# Altium integrated library Linear Technology Power Management Power Control.IntLib: 661 symbols (part 10 of 43)
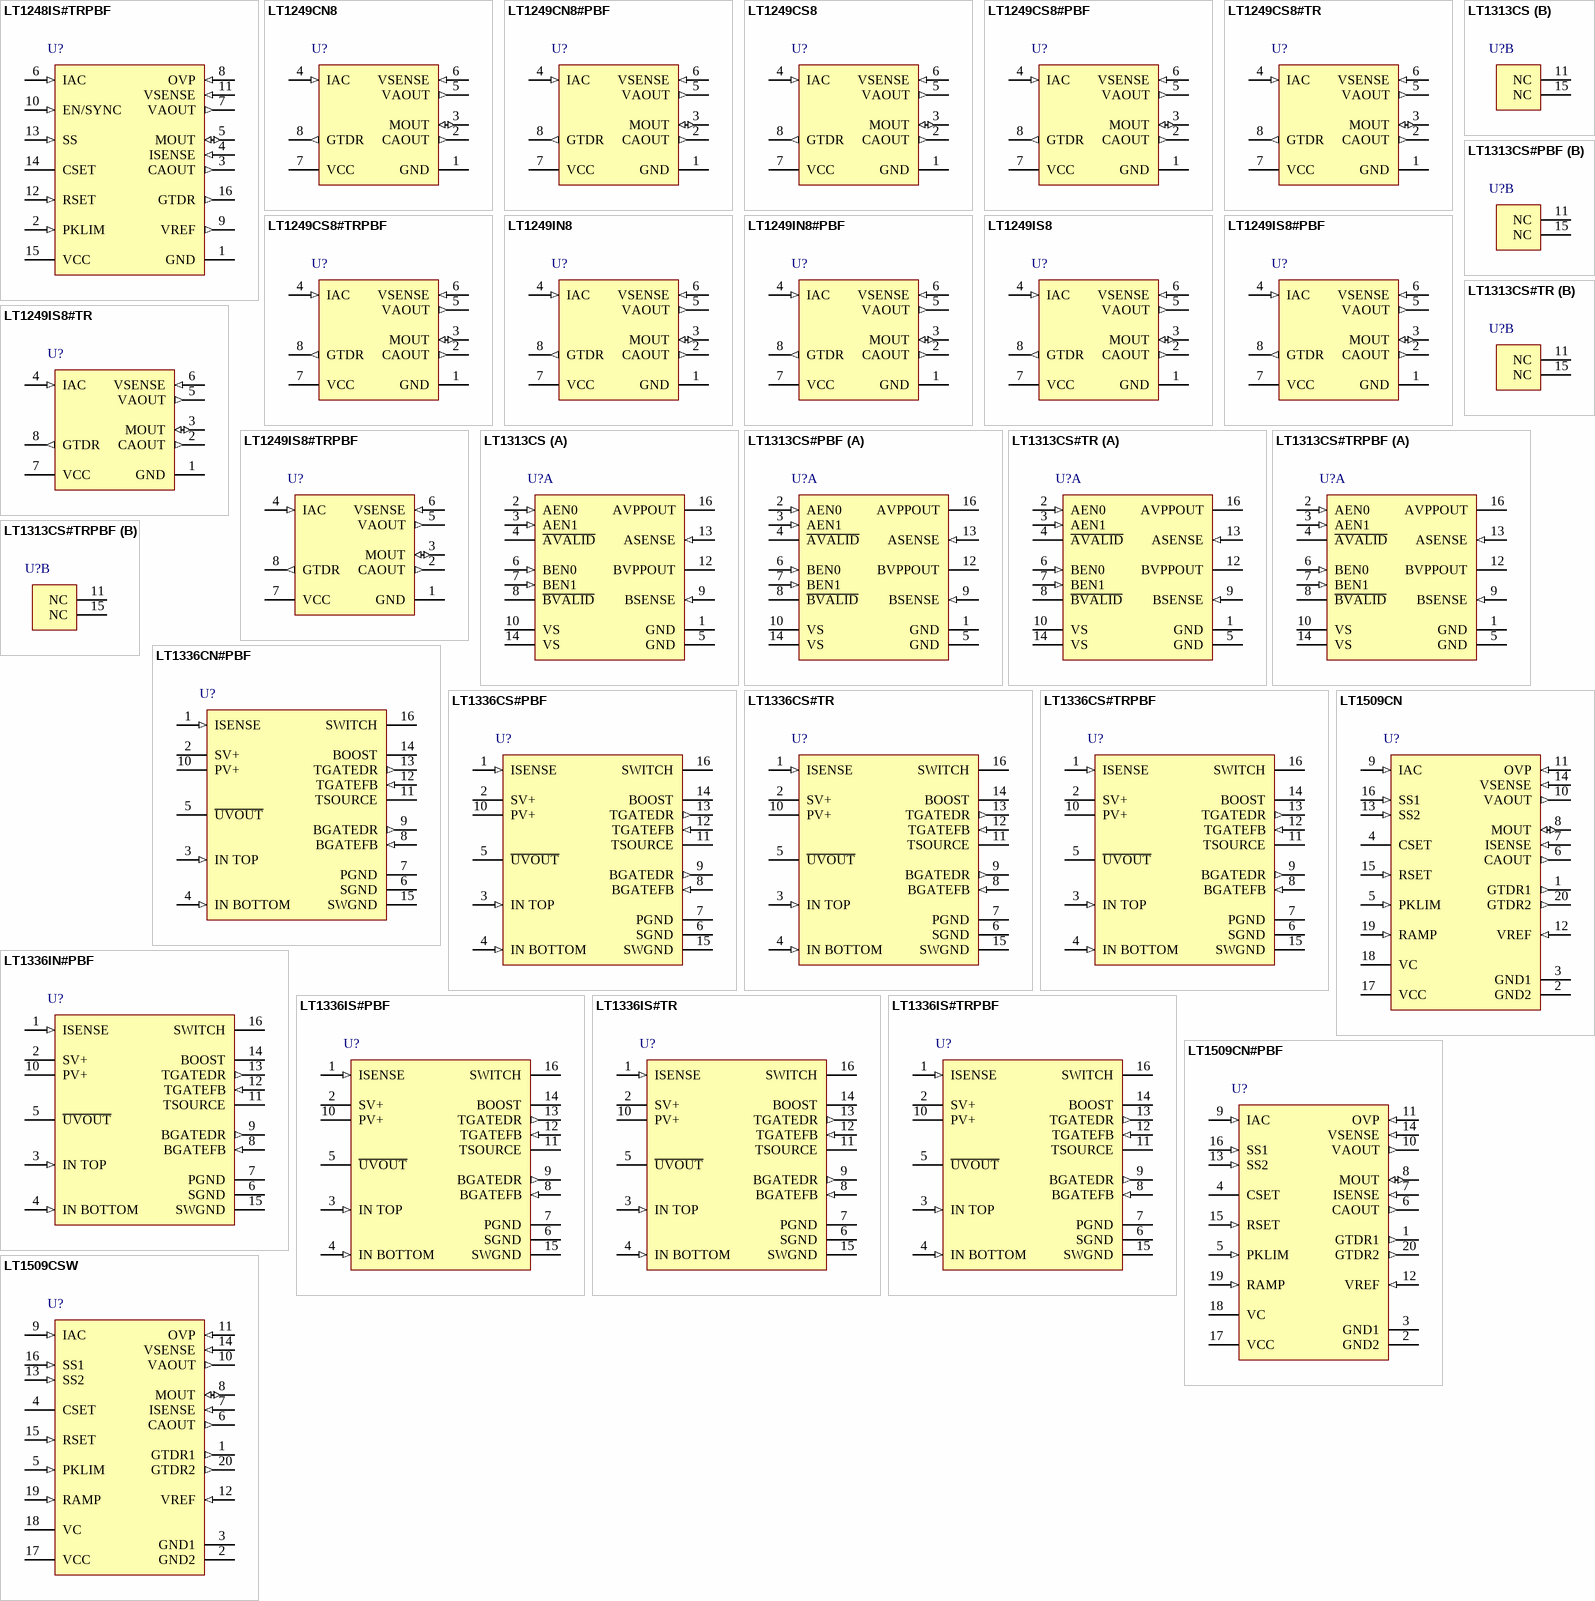
[diagram p28: symbols LT1248IS#TRPBF to LT1509CSW]

## LT1313CS#TRPBF
designator U?
Dual PCMCIA VPP Driver / Regulator, 13 to 20 V Vin, 16-pin SOP (S-16), 0 to 70 degC, Pb-Free, Tape and Reel; Manufacturer: Linear Technology; PartNumber: LT1313CS#TRPBF; PackageVersion: Rev. G, 05/2012; PackageReference: S-16; PackageDescription: 16-Pin Plastic Small Outline, Body 9.9 x 3.9 mm, Pitch 1.27 mm; Supplier 1: Digi-Key; Supplier Part Number 1: LT1313CS#TRPBF-ND; Packing: Tape and Reel; RoHS: TRUE; Mounting Technology: Surface Mount; ComponentLink1Description: Manufacturer URL; ComponentLink1URL: http://www.linear.com/; ComponentLink2Description: Datasheet; ComponentLink2URL: http://cds.linear.com/docs/en/datasheet/lt1313.pdf; ComponentLink3Description: Package Specification; ComponentLink3URL: http://cds.linear.com/docs/en/packaging/S16%2005-08-1610%20Rev%20G.pdf
footprint LT-S-16_N (SOP, 16-Leads, Body 10x4mm, Pitch 1.27mm, IPC Medium Density)
footprint LT-S-16_L (SOP, 16-Leads, Body 10x4mm, Pitch 1.27mm, IPC High Density)
footprint LT-S-16_M (SOP, 16-Leads, Body 10x4mm, Pitch 1.27mm, IPC Low Density)
part A pins: 1 GND (power) "The two ground pins must be connected together at all times.", 2 AEN0 (in) "The four digital input pins are high impedance inputs with approximately 20uA input current at 2.4V. The input thresholds are compatible with CMOS controllers and can be driven from either 5V or 3.3V CMOS logic. ESD (See Datasheet)", 3 AEN1 (in) "The four digital input pins are high impedance inputs with approximately 20uA input current at 2.4V. The input thresholds are compatible with CMOS controllers and can be driven from either 5V or 3.3V CMOS logic. ESD (See Datasheet)", 4 ~{AVALID} (oc) "These pins are open-collector NPN outputs which are driven low when the corresponding VPPOUT pin is in regulation, i.e., when it is above 11V. Two external 51k pull-up resistors are connected between these outputs and the (See Datasheet)", 5 GND (power) "The two ground pins must be connected together at all times.", 6 BEN0 (in) "The four digital input pins are high impedance inputs with approximately 20uA input current at 2.4V. The input thresholds are compatible with CMOS controllers and can be driven from either 5V or 3.3V CMOS logic. ESD (See Datasheet)", 7 BEN1 (in) "The four digital input pins are high impedance inputs with approximately 20uA input current at 2.4V. The input thresholds are compatible with CMOS controllers and can be driven from either 5V or 3.3V CMOS logic. ESD (See Datasheet)", 8 ~{BVALID} (oc) "These pins are open-collector NPN outputs which are driven low when the corresponding VPPOUT pin is in regulation, i.e., when it is above 11V. Two external 51k pull-up resistors are connected between these outputs and the (See Datasheet)", 9 BSENSE (in) "Two independent comparators and 4V references automatically switch the VPPOUT outputs from 5V to 3.3V depending upon the voltage sensed at the corresponding PCMCIA card socket VCC pin. The input current for these pins is (See Datasheet)", 10 VS (power) "Power is supplied to the device through the two supply pins which must be connected together at all times . The supply pins should be bypassed to ground if the device is more than six inches away from the main supply (See Datasheet)", 12 BVPPOUT (power) "Each regulated output supplies power to the two PCMCIA card VPP pins which are typically tied together at the socket. Each VPPOUT output is current limited to approximately 330mA. Thermal shutdown provides a second level of (See Datasheet)", 13 ASENSE (in) "Two independent comparators and 4V references automatically switch the VPPOUT outputs from 5V to 3.3V depending upon the voltage sensed at the corresponding PCMCIA card socket VCC pin. The input current for these pins is (See Datasheet)", 14 VS (power) "Power is supplied to the device through the two supply pins which must be connected together at all times . The supply pins should be bypassed to ground if the device is more than six inches away from the main supply (See Datasheet)", 16 AVPPOUT (power) "Each regulated output supplies power to the two PCMCIA card VPP pins which are typically tied together at the socket. Each VPPOUT output is current limited to approximately 330mA. Thermal shutdown provides a second level of (See Datasheet)"
part B pins: 11 NC, 15 NC

## LT1336CN#PBF
designator U?
Half-Bridge N-Channel Power MOSFET Driver with Boost Regulator, 9 to 60 V Vin, 16-pin DIP (N-16), 0 to 70 degC, Pb-Free; Manufacturer: Linear Technology; PartNumber: LT1336CN#PBF; DatasheetVersion: Rev. A; PackageVersion: Rev. I, 07/2011; PackageReference: N-16; PackageDescription: 16-Pin PDIP, Body 19.56 x 6.48 mm, Pitch 2.54 mm; Supplier 1: Digi-Key; Supplier Part Number 1: LT1336CN#PBF-ND; RoHS: TRUE; Mounting Technology: Through Hole; ComponentLink1Description: Manufacturer URL; ComponentLink1URL: http://www.linear.com/; ComponentLink2Description: Datasheet; ComponentLink2URL: http://cds.linear.com/docs/en/datasheet/1336fa.pdf; ComponentLink3Description: Package Specification; ComponentLink3URL: http://cds.linear.com/docs/en/packaging/05081510_I_N16.pdf
footprint LT-N-16 (DIP, 16-Leads, Body 19.56x6.48mm, Pitch 2.54mm)
pins: 1 ISENSE (in) "Boost Regulator ISENSE Comparator Input. An RSENSE placed between Pin 1 and V+ sets the maximum peak current. Pin 1 can be left open if the boost regulator is not used.", 2 SV+ (power) "Main Signal Supply. Must be closely decoupled to the signal ground Pin 6.", 3 IN TOP (in) "Top Driver Input. Pin 3 is disabled when Pin 4 is high. A 3k input resistor followed by a 5V internal clamp prevents saturation of the input transistors.", 4 IN BOTTOM (in) "Bottom Driver Input. Pin 4 is disabled when Pin 3 is high. A 3k input resistor followed by a 5V internal clamp prevents saturation of the input transistors", 5 ~{UVOUT} (oc) "Undervoltage Output. Open collector NPN output which turns on when V+ drops below the undervoltage threshold.", 6 SGND (power) "Small-Signal Ground. Must be routed separately from other grounds to the system ground", 7 PGND (power) "Bottom Driver Power Ground. Connects to source of bottom N-channel MOSFET.", 8 BGATEFB (in) "Bottom Gate Feedback. Must connect directly to the bottom power MOSFET gate. The top MOSFET turn-on is inhibited until Pin 8 has discharged to below 2.5V.", 9 BGATEDR (out) "Bottom Gate Drive. The high current drive point for the bottom MOSFET. When a gate resistor is used it is inserted between Pin 9 and the gate of the MOSFET.", 10 PV+ (power) "Bottom Driver Supply. Must be connected to the same supply as Pin 2.", 11 TSOURCE "Top Driver Return. Connects to the top MOSFET source and the low side of the bootstrap capacitor", 12 TGATEFB (in) "Top Gate Feedback. Must connect directly to the top power MOSFET gate. The bottom MOSFET turn-on is inhibited until VTGATEFB-VTSOURCE has discharged to below 2.9V.", 13 TGATEDR (out) "Top Gate Drive. The high current drive point for the top MOSFET. When a gate resistor is used it is inserted between Pin 13 and the gate of the MOSFET", 14 BOOST "Top Driver Supply. Connects to the high side of the bootstrap capacitor.", 15 SWGND (power) "Boost Regulator Ground. Must be routed separately from the other grounds to the system ground. Pin 15 can be left open if the boost regulator is not used.", 16 SWITCH "Boost Regulator Switch. Connect this pin to the inductor/diode of the boost regulator network. Pin 16 can be left open if the boost regulator is not used."

## LT1336CS#PBF
designator U?
Half-Bridge N-Channel Power MOSFET Driver with Boost Regulator, 9 to 60 V Vin, 16-pin SOP (S-16), 0 to 70 degC, Pb-Free; Manufacturer: Linear Technology; PartNumber: LT1336CS#PBF; DatasheetVersion: Rev. A; PackageVersion: Rev. G, 05/2012; PackageReference: S-16; PackageDescription: 16-Pin Plastic Small Outline, Body 9.9 x 3.9 mm, Pitch 1.27 mm; Supplier 1: Digi-Key; Supplier Part Number 1: LT1336CS#PBF-ND; Supplier 2: Newark; Supplier Part Number 2: 57M3357; RoHS: TRUE; Mounting Technology: Surface Mount; ComponentLink1Description: Manufacturer URL; ComponentLink1URL: http://www.linear.com/; ComponentLink2Description: Datasheet; ComponentLink2URL: http://cds.linear.com/docs/en/datasheet/1336fa.pdf; ComponentLink3Description: Package Specification; ComponentLink3URL: http://cds.linear.com/docs/en/packaging/S16%2005-08-1610%20Rev%20G.pdf
footprint LT-S-16_N (SOP, 16-Leads, Body 10x4mm, Pitch 1.27mm, IPC Medium Density)
footprint LT-S-16_L (SOP, 16-Leads, Body 10x4mm, Pitch 1.27mm, IPC High Density)
footprint LT-S-16_M (SOP, 16-Leads, Body 10x4mm, Pitch 1.27mm, IPC Low Density)
pins: 1 ISENSE (in) "Boost Regulator ISENSE Comparator Input. An RSENSE placed between Pin 1 and V+ sets the maximum peak current. Pin 1 can be left open if the boost regulator is not used.", 2 SV+ (power) "Main Signal Supply. Must be closely decoupled to the signal ground Pin 6.", 3 IN TOP (in) "Top Driver Input. Pin 3 is disabled when Pin 4 is high. A 3k input resistor followed by a 5V internal clamp prevents saturation of the input transistors.", 4 IN BOTTOM (in) "Bottom Driver Input. Pin 4 is disabled when Pin 3 is high. A 3k input resistor followed by a 5V internal clamp prevents saturation of the input transistors", 5 ~{UVOUT} (oc) "Undervoltage Output. Open collector NPN output which turns on when V+ drops below the undervoltage threshold.", 6 SGND (power) "Small-Signal Ground. Must be routed separately from other grounds to the system ground", 7 PGND (power) "Bottom Driver Power Ground. Connects to source of bottom N-channel MOSFET.", 8 BGATEFB (in) "Bottom Gate Feedback. Must connect directly to the bottom power MOSFET gate. The top MOSFET turn-on is inhibited until Pin 8 has discharged to below 2.5V.", 9 BGATEDR (out) "Bottom Gate Drive. The high current drive point for the bottom MOSFET. When a gate resistor is used it is inserted between Pin 9 and the gate of the MOSFET.", 10 PV+ (power) "Bottom Driver Supply. Must be connected to the same supply as Pin 2.", 11 TSOURCE "Top Driver Return. Connects to the top MOSFET source and the low side of the bootstrap capacitor", 12 TGATEFB (in) "Top Gate Feedback. Must connect directly to the top power MOSFET gate. The bottom MOSFET turn-on is inhibited until VTGATEFB-VTSOURCE has discharged to below 2.9V.", 13 TGATEDR (out) "Top Gate Drive. The high current drive point for the top MOSFET. When a gate resistor is used it is inserted between Pin 13 and the gate of the MOSFET", 14 BOOST "Top Driver Supply. Connects to the high side of the bootstrap capacitor.", 15 SWGND (power) "Boost Regulator Ground. Must be routed separately from the other grounds to the system ground. Pin 15 can be left open if the boost regulator is not used.", 16 SWITCH "Boost Regulator Switch. Connect this pin to the inductor/diode of the boost regulator network. Pin 16 can be left open if the boost regulator is not used."

## LT1336CS#TR
designator U?
Half-Bridge N-Channel Power MOSFET Driver with Boost Regulator, 9 to 60 V Vin, 16-pin SOP (S-16), 0 to 70 degC, Tape and Reel; Manufacturer: Linear Technology; PartNumber: LT1336CS#TR; DatasheetVersion: Rev. A; PackageVersion: Rev. G, 05/2012; PackageReference: S-16; PackageDescription: 16-Pin Plastic Small Outline, Body 9.9 x 3.9 mm, Pitch 1.27 mm; Supplier 1: Digi-Key; Supplier Part Number 1: LT1336CS#TR-ND; Packing: Tape and Reel; RoHS: FALSE; Mounting Technology: Surface Mount; ComponentLink1Description: Manufacturer URL; ComponentLink1URL: http://www.linear.com/; ComponentLink2Description: Datasheet; ComponentLink2URL: http://cds.linear.com/docs/en/datasheet/1336fa.pdf; ComponentLink3Description: Package Specification; ComponentLink3URL: http://cds.linear.com/docs/en/packaging/S16%2005-08-1610%20Rev%20G.pdf
footprint LT-S-16_N (SOP, 16-Leads, Body 10x4mm, Pitch 1.27mm, IPC Medium Density)
footprint LT-S-16_L (SOP, 16-Leads, Body 10x4mm, Pitch 1.27mm, IPC High Density)
footprint LT-S-16_M (SOP, 16-Leads, Body 10x4mm, Pitch 1.27mm, IPC Low Density)
pins: 1 ISENSE (in) "Boost Regulator ISENSE Comparator Input. An RSENSE placed between Pin 1 and V+ sets the maximum peak current. Pin 1 can be left open if the boost regulator is not used.", 2 SV+ (power) "Main Signal Supply. Must be closely decoupled to the signal ground Pin 6.", 3 IN TOP (in) "Top Driver Input. Pin 3 is disabled when Pin 4 is high. A 3k input resistor followed by a 5V internal clamp prevents saturation of the input transistors.", 4 IN BOTTOM (in) "Bottom Driver Input. Pin 4 is disabled when Pin 3 is high. A 3k input resistor followed by a 5V internal clamp prevents saturation of the input transistors", 5 ~{UVOUT} (oc) "Undervoltage Output. Open collector NPN output which turns on when V+ drops below the undervoltage threshold.", 6 SGND (power) "Small-Signal Ground. Must be routed separately from other grounds to the system ground", 7 PGND (power) "Bottom Driver Power Ground. Connects to source of bottom N-channel MOSFET.", 8 BGATEFB (in) "Bottom Gate Feedback. Must connect directly to the bottom power MOSFET gate. The top MOSFET turn-on is inhibited until Pin 8 has discharged to below 2.5V.", 9 BGATEDR (out) "Bottom Gate Drive. The high current drive point for the bottom MOSFET. When a gate resistor is used it is inserted between Pin 9 and the gate of the MOSFET.", 10 PV+ (power) "Bottom Driver Supply. Must be connected to the same supply as Pin 2.", 11 TSOURCE "Top Driver Return. Connects to the top MOSFET source and the low side of the bootstrap capacitor", 12 TGATEFB (in) "Top Gate Feedback. Must connect directly to the top power MOSFET gate. The bottom MOSFET turn-on is inhibited until VTGATEFB-VTSOURCE has discharged to below 2.9V.", 13 TGATEDR (out) "Top Gate Drive. The high current drive point for the top MOSFET. When a gate resistor is used it is inserted between Pin 13 and the gate of the MOSFET", 14 BOOST "Top Driver Supply. Connects to the high side of the bootstrap capacitor.", 15 SWGND (power) "Boost Regulator Ground. Must be routed separately from the other grounds to the system ground. Pin 15 can be left open if the boost regulator is not used.", 16 SWITCH "Boost Regulator Switch. Connect this pin to the inductor/diode of the boost regulator network. Pin 16 can be left open if the boost regulator is not used."

## LT1336CS#TRPBF
designator U?
Half-Bridge N-Channel Power MOSFET Driver with Boost Regulator, 9 to 60 V Vin, 16-pin SOP (S-16), 0 to 70 degC, Pb-Free, Tape and Reel; Manufacturer: Linear Technology; PartNumber: LT1336CS#TRPBF; DatasheetVersion: Rev. A; PackageVersion: Rev. G, 05/2012; PackageReference: S-16; PackageDescription: 16-Pin Plastic Small Outline, Body 9.9 x 3.9 mm, Pitch 1.27 mm; Supplier 1: Digi-Key; Supplier Part Number 1: LT1336CS#TRPBF-ND; Supplier 2: Newark; Supplier Part Number 2: 57M3359; Packing: Tape and Reel; RoHS: TRUE; Mounting Technology: Surface Mount; ComponentLink1Description: Manufacturer URL; ComponentLink1URL: http://www.linear.com/; ComponentLink2Description: Datasheet; ComponentLink2URL: http://cds.linear.com/docs/en/datasheet/1336fa.pdf; ComponentLink3Description: Package Specification; ComponentLink3URL: http://cds.linear.com/docs/en/packaging/S16%2005-08-1610%20Rev%20G.pdf
footprint LT-S-16_N (SOP, 16-Leads, Body 10x4mm, Pitch 1.27mm, IPC Medium Density)
footprint LT-S-16_L (SOP, 16-Leads, Body 10x4mm, Pitch 1.27mm, IPC High Density)
footprint LT-S-16_M (SOP, 16-Leads, Body 10x4mm, Pitch 1.27mm, IPC Low Density)
pins: 1 ISENSE (in) "Boost Regulator ISENSE Comparator Input. An RSENSE placed between Pin 1 and V+ sets the maximum peak current. Pin 1 can be left open if the boost regulator is not used.", 2 SV+ (power) "Main Signal Supply. Must be closely decoupled to the signal ground Pin 6.", 3 IN TOP (in) "Top Driver Input. Pin 3 is disabled when Pin 4 is high. A 3k input resistor followed by a 5V internal clamp prevents saturation of the input transistors.", 4 IN BOTTOM (in) "Bottom Driver Input. Pin 4 is disabled when Pin 3 is high. A 3k input resistor followed by a 5V internal clamp prevents saturation of the input transistors", 5 ~{UVOUT} (oc) "Undervoltage Output. Open collector NPN output which turns on when V+ drops below the undervoltage threshold.", 6 SGND (power) "Small-Signal Ground. Must be routed separately from other grounds to the system ground", 7 PGND (power) "Bottom Driver Power Ground. Connects to source of bottom N-channel MOSFET.", 8 BGATEFB (in) "Bottom Gate Feedback. Must connect directly to the bottom power MOSFET gate. The top MOSFET turn-on is inhibited until Pin 8 has discharged to below 2.5V.", 9 BGATEDR (out) "Bottom Gate Drive. The high current drive point for the bottom MOSFET. When a gate resistor is used it is inserted between Pin 9 and the gate of the MOSFET.", 10 PV+ (power) "Bottom Driver Supply. Must be connected to the same supply as Pin 2.", 11 TSOURCE "Top Driver Return. Connects to the top MOSFET source and the low side of the bootstrap capacitor", 12 TGATEFB (in) "Top Gate Feedback. Must connect directly to the top power MOSFET gate. The bottom MOSFET turn-on is inhibited until VTGATEFB-VTSOURCE has discharged to below 2.9V.", 13 TGATEDR (out) "Top Gate Drive. The high current drive point for the top MOSFET. When a gate resistor is used it is inserted between Pin 13 and the gate of the MOSFET", 14 BOOST "Top Driver Supply. Connects to the high side of the bootstrap capacitor.", 15 SWGND (power) "Boost Regulator Ground. Must be routed separately from the other grounds to the system ground. Pin 15 can be left open if the boost regulator is not used.", 16 SWITCH "Boost Regulator Switch. Connect this pin to the inductor/diode of the boost regulator network. Pin 16 can be left open if the boost regulator is not used."

## LT1336IN#PBF
designator U?
Half-Bridge N-Channel Power MOSFET Driver with Boost Regulator, 9 to 60 V Vin, 16-pin DIP (N-16), -40 to 85 degC, Pb-Free; Manufacturer: Linear Technology; PartNumber: LT1336IN#PBF; DatasheetVersion: Rev. A; PackageVersion: Rev. I, 07/2011; PackageReference: N-16; PackageDescription: 16-Pin PDIP, Body 19.56 x 6.48 mm, Pitch 2.54 mm; Supplier 1: Digi-Key; Supplier Part Number 1: LT1336IN#PBF-ND; RoHS: TRUE; Mounting Technology: Through Hole; ComponentLink1Description: Manufacturer URL; ComponentLink1URL: http://www.linear.com/; ComponentLink2Description: Datasheet; ComponentLink2URL: http://cds.linear.com/docs/en/datasheet/1336fa.pdf; ComponentLink3Description: Package Specification; ComponentLink3URL: http://cds.linear.com/docs/en/packaging/05081510_I_N16.pdf
footprint LT-N-16 (DIP, 16-Leads, Body 19.56x6.48mm, Pitch 2.54mm)
pins: 1 ISENSE (in) "Boost Regulator ISENSE Comparator Input. An RSENSE placed between Pin 1 and V+ sets the maximum peak current. Pin 1 can be left open if the boost regulator is not used.", 2 SV+ (power) "Main Signal Supply. Must be closely decoupled to the signal ground Pin 6.", 3 IN TOP (in) "Top Driver Input. Pin 3 is disabled when Pin 4 is high. A 3k input resistor followed by a 5V internal clamp prevents saturation of the input transistors.", 4 IN BOTTOM (in) "Bottom Driver Input. Pin 4 is disabled when Pin 3 is high. A 3k input resistor followed by a 5V internal clamp prevents saturation of the input transistors", 5 ~{UVOUT} (oc) "Undervoltage Output. Open collector NPN output which turns on when V+ drops below the undervoltage threshold.", 6 SGND (power) "Small-Signal Ground. Must be routed separately from other grounds to the system ground", 7 PGND (power) "Bottom Driver Power Ground. Connects to source of bottom N-channel MOSFET.", 8 BGATEFB (in) "Bottom Gate Feedback. Must connect directly to the bottom power MOSFET gate. The top MOSFET turn-on is inhibited until Pin 8 has discharged to below 2.5V.", 9 BGATEDR (out) "Bottom Gate Drive. The high current drive point for the bottom MOSFET. When a gate resistor is used it is inserted between Pin 9 and the gate of the MOSFET.", 10 PV+ (power) "Bottom Driver Supply. Must be connected to the same supply as Pin 2.", 11 TSOURCE "Top Driver Return. Connects to the top MOSFET source and the low side of the bootstrap capacitor", 12 TGATEFB (in) "Top Gate Feedback. Must connect directly to the top power MOSFET gate. The bottom MOSFET turn-on is inhibited until VTGATEFB-VTSOURCE has discharged to below 2.9V.", 13 TGATEDR (out) "Top Gate Drive. The high current drive point for the top MOSFET. When a gate resistor is used it is inserted between Pin 13 and the gate of the MOSFET", 14 BOOST "Top Driver Supply. Connects to the high side of the bootstrap capacitor.", 15 SWGND (power) "Boost Regulator Ground. Must be routed separately from the other grounds to the system ground. Pin 15 can be left open if the boost regulator is not used.", 16 SWITCH "Boost Regulator Switch. Connect this pin to the inductor/diode of the boost regulator network. Pin 16 can be left open if the boost regulator is not used."

## LT1336IS#PBF
designator U?
Half-Bridge N-Channel Power MOSFET Driver with Boost Regulator, 9 to 60 V Vin, 16-pin SOP (S-16), -40 to 85 degC, Pb-Free; Manufacturer: Linear Technology; PartNumber: LT1336IS#PBF; DatasheetVersion: Rev. A; PackageVersion: Rev. G, 05/2012; PackageReference: S-16; PackageDescription: 16-Pin Plastic Small Outline, Body 9.9 x 3.9 mm, Pitch 1.27 mm; Supplier 1: Digi-Key; Supplier Part Number 1: LT1336IS#PBF-ND; RoHS: TRUE; Mounting Technology: Surface Mount; ComponentLink1Description: Manufacturer URL; ComponentLink1URL: http://www.linear.com/; ComponentLink2Description: Datasheet; ComponentLink2URL: http://cds.linear.com/docs/en/datasheet/1336fa.pdf; ComponentLink3Description: Package Specification; ComponentLink3URL: http://cds.linear.com/docs/en/packaging/S16%2005-08-1610%20Rev%20G.pdf
footprint LT-S-16_N (SOP, 16-Leads, Body 10x4mm, Pitch 1.27mm, IPC Medium Density)
footprint LT-S-16_L (SOP, 16-Leads, Body 10x4mm, Pitch 1.27mm, IPC High Density)
footprint LT-S-16_M (SOP, 16-Leads, Body 10x4mm, Pitch 1.27mm, IPC Low Density)
pins: 1 ISENSE (in) "Boost Regulator ISENSE Comparator Input. An RSENSE placed between Pin 1 and V+ sets the maximum peak current. Pin 1 can be left open if the boost regulator is not used.", 2 SV+ (power) "Main Signal Supply. Must be closely decoupled to the signal ground Pin 6.", 3 IN TOP (in) "Top Driver Input. Pin 3 is disabled when Pin 4 is high. A 3k input resistor followed by a 5V internal clamp prevents saturation of the input transistors.", 4 IN BOTTOM (in) "Bottom Driver Input. Pin 4 is disabled when Pin 3 is high. A 3k input resistor followed by a 5V internal clamp prevents saturation of the input transistors", 5 ~{UVOUT} (oc) "Undervoltage Output. Open collector NPN output which turns on when V+ drops below the undervoltage threshold.", 6 SGND (power) "Small-Signal Ground. Must be routed separately from other grounds to the system ground", 7 PGND (power) "Bottom Driver Power Ground. Connects to source of bottom N-channel MOSFET.", 8 BGATEFB (in) "Bottom Gate Feedback. Must connect directly to the bottom power MOSFET gate. The top MOSFET turn-on is inhibited until Pin 8 has discharged to below 2.5V.", 9 BGATEDR (out) "Bottom Gate Drive. The high current drive point for the bottom MOSFET. When a gate resistor is used it is inserted between Pin 9 and the gate of the MOSFET.", 10 PV+ (power) "Bottom Driver Supply. Must be connected to the same supply as Pin 2.", 11 TSOURCE "Top Driver Return. Connects to the top MOSFET source and the low side of the bootstrap capacitor", 12 TGATEFB (in) "Top Gate Feedback. Must connect directly to the top power MOSFET gate. The bottom MOSFET turn-on is inhibited until VTGATEFB-VTSOURCE has discharged to below 2.9V.", 13 TGATEDR (out) "Top Gate Drive. The high current drive point for the top MOSFET. When a gate resistor is used it is inserted between Pin 13 and the gate of the MOSFET", 14 BOOST "Top Driver Supply. Connects to the high side of the bootstrap capacitor.", 15 SWGND (power) "Boost Regulator Ground. Must be routed separately from the other grounds to the system ground. Pin 15 can be left open if the boost regulator is not used.", 16 SWITCH "Boost Regulator Switch. Connect this pin to the inductor/diode of the boost regulator network. Pin 16 can be left open if the boost regulator is not used."

## LT1336IS#TR
designator U?
Half-Bridge N-Channel Power MOSFET Driver with Boost Regulator, 9 to 60 V Vin, 16-pin SOP (S-16), -40 to 85 degC, Tape and Reel; Manufacturer: Linear Technology; PartNumber: LT1336IS#TR; DatasheetVersion: Rev. A; PackageVersion: Rev. G, 05/2012; PackageReference: S-16; PackageDescription: 16-Pin Plastic Small Outline, Body 9.9 x 3.9 mm, Pitch 1.27 mm; Supplier 1: Digi-Key; Supplier Part Number 1: LT1336IS#TR-ND; Packing: Tape and Reel; RoHS: FALSE; Mounting Technology: Surface Mount; ComponentLink1Description: Manufacturer URL; ComponentLink1URL: http://www.linear.com/; ComponentLink2Description: Datasheet; ComponentLink2URL: http://cds.linear.com/docs/en/datasheet/1336fa.pdf; ComponentLink3Description: Package Specification; ComponentLink3URL: http://cds.linear.com/docs/en/packaging/S16%2005-08-1610%20Rev%20G.pdf
footprint LT-S-16_N (SOP, 16-Leads, Body 10x4mm, Pitch 1.27mm, IPC Medium Density)
footprint LT-S-16_L (SOP, 16-Leads, Body 10x4mm, Pitch 1.27mm, IPC High Density)
footprint LT-S-16_M (SOP, 16-Leads, Body 10x4mm, Pitch 1.27mm, IPC Low Density)
pins: 1 ISENSE (in) "Boost Regulator ISENSE Comparator Input. An RSENSE placed between Pin 1 and V+ sets the maximum peak current. Pin 1 can be left open if the boost regulator is not used.", 2 SV+ (power) "Main Signal Supply. Must be closely decoupled to the signal ground Pin 6.", 3 IN TOP (in) "Top Driver Input. Pin 3 is disabled when Pin 4 is high. A 3k input resistor followed by a 5V internal clamp prevents saturation of the input transistors.", 4 IN BOTTOM (in) "Bottom Driver Input. Pin 4 is disabled when Pin 3 is high. A 3k input resistor followed by a 5V internal clamp prevents saturation of the input transistors", 5 ~{UVOUT} (oc) "Undervoltage Output. Open collector NPN output which turns on when V+ drops below the undervoltage threshold.", 6 SGND (power) "Small-Signal Ground. Must be routed separately from other grounds to the system ground", 7 PGND (power) "Bottom Driver Power Ground. Connects to source of bottom N-channel MOSFET.", 8 BGATEFB (in) "Bottom Gate Feedback. Must connect directly to the bottom power MOSFET gate. The top MOSFET turn-on is inhibited until Pin 8 has discharged to below 2.5V.", 9 BGATEDR (out) "Bottom Gate Drive. The high current drive point for the bottom MOSFET. When a gate resistor is used it is inserted between Pin 9 and the gate of the MOSFET.", 10 PV+ (power) "Bottom Driver Supply. Must be connected to the same supply as Pin 2.", 11 TSOURCE "Top Driver Return. Connects to the top MOSFET source and the low side of the bootstrap capacitor", 12 TGATEFB (in) "Top Gate Feedback. Must connect directly to the top power MOSFET gate. The bottom MOSFET turn-on is inhibited until VTGATEFB-VTSOURCE has discharged to below 2.9V.", 13 TGATEDR (out) "Top Gate Drive. The high current drive point for the top MOSFET. When a gate resistor is used it is inserted between Pin 13 and the gate of the MOSFET", 14 BOOST "Top Driver Supply. Connects to the high side of the bootstrap capacitor.", 15 SWGND (power) "Boost Regulator Ground. Must be routed separately from the other grounds to the system ground. Pin 15 can be left open if the boost regulator is not used.", 16 SWITCH "Boost Regulator Switch. Connect this pin to the inductor/diode of the boost regulator network. Pin 16 can be left open if the boost regulator is not used."

## LT1336IS#TRPBF
designator U?
Half-Bridge N-Channel Power MOSFET Driver with Boost Regulator, 9 to 60 V Vin, 16-pin SOP (S-16), -40 to 85 degC, Pb-Free, Tape and Reel; Manufacturer: Linear Technology; PartNumber: LT1336IS#TRPBF; DatasheetVersion: Rev. A; PackageVersion: Rev. G, 05/2012; PackageReference: S-16; PackageDescription: 16-Pin Plastic Small Outline, Body 9.9 x 3.9 mm, Pitch 1.27 mm; Supplier 1: Digi-Key; Supplier Part Number 1: LT1336IS#TRPBF-ND; Packing: Tape and Reel; RoHS: TRUE; Mounting Technology: Surface Mount; ComponentLink1Description: Manufacturer URL; ComponentLink1URL: http://www.linear.com/; ComponentLink2Description: Datasheet; ComponentLink2URL: http://cds.linear.com/docs/en/datasheet/1336fa.pdf; ComponentLink3Description: Package Specification; ComponentLink3URL: http://cds.linear.com/docs/en/packaging/S16%2005-08-1610%20Rev%20G.pdf
footprint LT-S-16_N (SOP, 16-Leads, Body 10x4mm, Pitch 1.27mm, IPC Medium Density)
footprint LT-S-16_L (SOP, 16-Leads, Body 10x4mm, Pitch 1.27mm, IPC High Density)
footprint LT-S-16_M (SOP, 16-Leads, Body 10x4mm, Pitch 1.27mm, IPC Low Density)
pins: 1 ISENSE (in) "Boost Regulator ISENSE Comparator Input. An RSENSE placed between Pin 1 and V+ sets the maximum peak current. Pin 1 can be left open if the boost regulator is not used.", 2 SV+ (power) "Main Signal Supply. Must be closely decoupled to the signal ground Pin 6.", 3 IN TOP (in) "Top Driver Input. Pin 3 is disabled when Pin 4 is high. A 3k input resistor followed by a 5V internal clamp prevents saturation of the input transistors.", 4 IN BOTTOM (in) "Bottom Driver Input. Pin 4 is disabled when Pin 3 is high. A 3k input resistor followed by a 5V internal clamp prevents saturation of the input transistors", 5 ~{UVOUT} (oc) "Undervoltage Output. Open collector NPN output which turns on when V+ drops below the undervoltage threshold.", 6 SGND (power) "Small-Signal Ground. Must be routed separately from other grounds to the system ground", 7 PGND (power) "Bottom Driver Power Ground. Connects to source of bottom N-channel MOSFET.", 8 BGATEFB (in) "Bottom Gate Feedback. Must connect directly to the bottom power MOSFET gate. The top MOSFET turn-on is inhibited until Pin 8 has discharged to below 2.5V.", 9 BGATEDR (out) "Bottom Gate Drive. The high current drive point for the bottom MOSFET. When a gate resistor is used it is inserted between Pin 9 and the gate of the MOSFET.", 10 PV+ (power) "Bottom Driver Supply. Must be connected to the same supply as Pin 2.", 11 TSOURCE "Top Driver Return. Connects to the top MOSFET source and the low side of the bootstrap capacitor", 12 TGATEFB (in) "Top Gate Feedback. Must connect directly to the top power MOSFET gate. The bottom MOSFET turn-on is inhibited until VTGATEFB-VTSOURCE has discharged to below 2.9V.", 13 TGATEDR (out) "Top Gate Drive. The high current drive point for the top MOSFET. When a gate resistor is used it is inserted between Pin 13 and the gate of the MOSFET", 14 BOOST "Top Driver Supply. Connects to the high side of the bootstrap capacitor.", 15 SWGND (power) "Boost Regulator Ground. Must be routed separately from the other grounds to the system ground. Pin 15 can be left open if the boost regulator is not used.", 16 SWITCH "Boost Regulator Switch. Connect this pin to the inductor/diode of the boost regulator network. Pin 16 can be left open if the boost regulator is not used."

## LT1509CN
designator U?
Power Factor and PWM Controller, 20-pin DIP (N-20), 0 to 100 degC; Manufacturer: Linear Technology; PartNumber: LT1509CN; PackageVersion: Rev. I, 07/2011; PackageReference: N-20; PackageDescription: 20-Pin PDIP, Body 26.924 x 6.477 mm, Pitch 2.54 mm; Supplier 1: Digi-Key; Supplier Part Number 1: LT1509CN-ND; RoHS: FALSE; Mounting Technology: Through Hole; ComponentLink1Description: Manufacturer URL; ComponentLink1URL: http://www.linear.com/; ComponentLink2Description: Datasheet; ComponentLink2URL: http://cds.linear.com/docs/en/datasheet/lt1509.pdf; ComponentLink3Description: Package Specification; ComponentLink3URL: http://cds.linear.com/docs/en/packaging/05081510_I_N20.pdf
footprint LT-N-20 (DIP, 20-Leads, Body 26.924x6.477mm, Pitch 2.54mm)
pins: 1 GTDR1 (out) "The PFC MOSFET gate driver is a fast totem pole output which is clamped at 15 V. Capacitive loads like the MOSFET gates may cause overshoot. A gate series resistor of at least 5 ohm will prevent the overshoot.", 2 GND2 (power) "Power Ground. High current spikes occur in this line when either GTDR1 or GTDR2 switches low.", 3 GND1 (power) "Analog Ground.", 4 CSET "The capacitor from this pin to GND and RSET determines oscillator frequency. The oscillator ramp is 5V and the frequency = 1.5/(RSET CSET ).", 5 PKLIM (in) "The threshold of the peak current limit comparator is GND. To set current limit, a resistor divider can be connected from VREF to current sense resistor.", 6 CAOUT (out) "This is the output of the current amplifier that senses and forces the line current to follow the reference signal that comes from the multiplier by commanding the pulse width modulator. When CAOUT is low, the modulator has (See Datasheet)", 7 ISENSE (in) "This is the inverting input of the current amplifier. This pin is clamped at -0.6 V by an ESD protec tion diode.", 8 MOUT (io) "This is the multiplier high impedance current output and the noninverting input of the current amplifier. This pin is clamped at -0.6 V and 3 V.", 9 IAC (in) "This is the AC line voltage sensing input to the multiplier. It is a current input that is biased at 2 V to minimize the crossover dead zone caused by low line voltage. At the pin, a 25 k resistor is in series with the (See Datasheet)", 10 VAOUT (out) "This is the output of the voltage error amplifier. The output is clamped at 13.5 V. When the output goes below 2.5 V, the multiplier output current is zero.", 11 OVP (in) "This is the input to the overvoltage comparator. The threshold is 1.05 times the reference voltage. When the comparator trips, the multiplier, which is quickly inhibited, blanks PFC switching to prevent further overshoot. (See Datasheet)", 12 VREF (in) "This is the 7.5 V reference. When VCC goes low, VREF will stay at 0 V. VREF biases most of the internal circuitry and can source up to 5 mA externally.", 13 SS2 (in) "PWM Soft Start. The comparator PWMOK monitors the OVP pin and releases the SS2 after the PFC output gets close to the final voltage.", 14 VSENSE (in) "This is the inverting input to the voltage amplifier.", 15 RSET (in) "A resistor from RSET to GND sets the oscillator charging current and the maximum multiplier output current which is used to limit the maximum line current.", 16 SS1 (in) "Soft Start. SS1 is reset to zero for low VCC . When VCC rises above lockout threshold, SS1 is released to ramp up at a rate set by the internal 12 uA current source and an external capacitor. During this ramp up, PFC (See Datasheet)", 17 VCC (power) "This is the supply for the chip.", 18 VC "PWM current mode control voltage. Normally connects to the optocoupler amplifier output. A pull-up current of 50 uA flows out of the pin.", 19 RAMP (in) "PWM current mode current sense input with current limit set to 1 V.", 20 GTDR2 (out) "The PWM MOSFET gate driver is a 1.5 A fast totem pole output. It is clamped at 15 V. Capacitive loads like the MOSFET gates may cause overshoot. A gate series resistor of at least 5 ohm will prevent the overshoot."

## LT1509CN#PBF
designator U?
Power Factor and PWM Controller, 20-pin DIP (N-20), 0 to 100 degC, Pb-Free; Manufacturer: Linear Technology; PartNumber: LT1509CN#PBF; PackageVersion: Rev. I, 07/2011; PackageReference: N-20; PackageDescription: 20-Pin PDIP, Body 26.924 x 6.477 mm, Pitch 2.54 mm; Supplier 1: Digi-Key; Supplier Part Number 1: LT1509CN#PBF-ND; RoHS: TRUE; Mounting Technology: Through Hole; ComponentLink1Description: Manufacturer URL; ComponentLink1URL: http://www.linear.com/; ComponentLink2Description: Datasheet; ComponentLink2URL: http://cds.linear.com/docs/en/datasheet/lt1509.pdf; ComponentLink3Description: Package Specification; ComponentLink3URL: http://cds.linear.com/docs/en/packaging/05081510_I_N20.pdf
footprint LT-N-20 (DIP, 20-Leads, Body 26.924x6.477mm, Pitch 2.54mm)
pins: 1 GTDR1 (out) "The PFC MOSFET gate driver is a fast totem pole output which is clamped at 15 V. Capacitive loads like the MOSFET gates may cause overshoot. A gate series resistor of at least 5 ohm will prevent the overshoot.", 2 GND2 (power) "Power Ground. High current spikes occur in this line when either GTDR1 or GTDR2 switches low.", 3 GND1 (power) "Analog Ground.", 4 CSET "The capacitor from this pin to GND and RSET determines oscillator frequency. The oscillator ramp is 5V and the frequency = 1.5/(RSET CSET ).", 5 PKLIM (in) "The threshold of the peak current limit comparator is GND. To set current limit, a resistor divider can be connected from VREF to current sense resistor.", 6 CAOUT (out) "This is the output of the current amplifier that senses and forces the line current to follow the reference signal that comes from the multiplier by commanding the pulse width modulator. When CAOUT is low, the modulator has (See Datasheet)", 7 ISENSE (in) "This is the inverting input of the current amplifier. This pin is clamped at -0.6 V by an ESD protec tion diode.", 8 MOUT (io) "This is the multiplier high impedance current output and the noninverting input of the current amplifier. This pin is clamped at -0.6 V and 3 V.", 9 IAC (in) "This is the AC line voltage sensing input to the multiplier. It is a current input that is biased at 2 V to minimize the crossover dead zone caused by low line voltage. At the pin, a 25 k resistor is in series with the (See Datasheet)", 10 VAOUT (out) "This is the output of the voltage error amplifier. The output is clamped at 13.5 V. When the output goes below 2.5 V, the multiplier output current is zero.", 11 OVP (in) "This is the input to the overvoltage comparator. The threshold is 1.05 times the reference voltage. When the comparator trips, the multiplier, which is quickly inhibited, blanks PFC switching to prevent further overshoot. (See Datasheet)", 12 VREF (in) "This is the 7.5 V reference. When VCC goes low, VREF will stay at 0 V. VREF biases most of the internal circuitry and can source up to 5 mA externally.", 13 SS2 (in) "PWM Soft Start. The comparator PWMOK monitors the OVP pin and releases the SS2 after the PFC output gets close to the final voltage.", 14 VSENSE (in) "This is the inverting input to the voltage amplifier.", 15 RSET (in) "A resistor from RSET to GND sets the oscillator charging current and the maximum multiplier output current which is used to limit the maximum line current.", 16 SS1 (in) "Soft Start. SS1 is reset to zero for low VCC . When VCC rises above lockout threshold, SS1 is released to ramp up at a rate set by the internal 12 uA current source and an external capacitor. During this ramp up, PFC (See Datasheet)", 17 VCC (power) "This is the supply for the chip.", 18 VC "PWM current mode control voltage. Normally connects to the optocoupler amplifier output. A pull-up current of 50 uA flows out of the pin.", 19 RAMP (in) "PWM current mode current sense input with current limit set to 1 V.", 20 GTDR2 (out) "The PWM MOSFET gate driver is a 1.5 A fast totem pole output. It is clamped at 15 V. Capacitive loads like the MOSFET gates may cause overshoot. A gate series resistor of at least 5 ohm will prevent the overshoot."

## LT1509CSW
designator U?
Power Factor and PWM Controller, 20-pin SOIC (SW-20), 0 to 100 degC; Manufacturer: Linear Technology; PartNumber: LT1509CSW; PackageVersion: Jun-10; PackageReference: SW-20; PackageDescription: 20-Pin Plastic Small Outline, Body 12.80 x 7.49 mm, Pitch 1.27 mm; Supplier 1: Digi-Key; Supplier Part Number 1: LT1509CSW-ND; RoHS: FALSE; Mounting Technology: Surface Mount; ComponentLink1Description: Manufacturer URL; ComponentLink1URL: http://www.linear.com/; ComponentLink2Description: Datasheet; ComponentLink2URL: http://cds.linear.com/docs/en/datasheet/lt1509.pdf; ComponentLink3Description: Package Specification; ComponentLink3URL: http://cds.linear.com/docs/en/packaging/SO_20_05-08-1620.pdf
footprint LT-SW-20_N (SOIC, 20-Leads, Body 12.8x7.49mm, Pitch 1.27mm, IPC Medium Density)
footprint LT-SW-20_L (SOIC, 20-Leads, Body 12.8x7.49mm, Pitch 1.27mm, IPC High Density)
footprint LT-SW-20_M (SOIC, 20-Leads, Body 12.8x7.49mm, Pitch 1.27mm, IPC Low Density)
pins: 1 GTDR1 (out) "The PFC MOSFET gate driver is a fast totem pole output which is clamped at 15 V. Capacitive loads like the MOSFET gates may cause overshoot. A gate series resistor of at least 5 ohm will prevent the overshoot.", 2 GND2 (power) "Power Ground. High current spikes occur in this line when either GTDR1 or GTDR2 switches low.", 3 GND1 (power) "Analog Ground.", 4 CSET "The capacitor from this pin to GND and RSET determines oscillator frequency. The oscillator ramp is 5V and the frequency = 1.5/(RSET CSET ).", 5 PKLIM (in) "The threshold of the peak current limit comparator is GND. To set current limit, a resistor divider can be connected from VREF to current sense resistor.", 6 CAOUT (out) "This is the output of the current amplifier that senses and forces the line current to follow the reference signal that comes from the multiplier by commanding the pulse width modulator. When CAOUT is low, the modulator has (See Datasheet)", 7 ISENSE (in) "This is the inverting input of the current amplifier. This pin is clamped at -0.6 V by an ESD protec tion diode.", 8 MOUT (io) "This is the multiplier high impedance current output and the noninverting input of the current amplifier. This pin is clamped at -0.6 V and 3 V.", 9 IAC (in) "This is the AC line voltage sensing input to the multiplier. It is a current input that is biased at 2 V to minimize the crossover dead zone caused by low line voltage. At the pin, a 25 k resistor is in series with the (See Datasheet)", 10 VAOUT (out) "This is the output of the voltage error amplifier. The output is clamped at 13.5 V. When the output goes below 2.5 V, the multiplier output current is zero.", 11 OVP (in) "This is the input to the overvoltage comparator. The threshold is 1.05 times the reference voltage. When the comparator trips, the multiplier, which is quickly inhibited, blanks PFC switching to prevent further overshoot. (See Datasheet)", 12 VREF (in) "This is the 7.5 V reference. When VCC goes low, VREF will stay at 0 V. VREF biases most of the internal circuitry and can source up to 5 mA externally.", 13 SS2 (in) "PWM Soft Start. The comparator PWMOK monitors the OVP pin and releases the SS2 after the PFC output gets close to the final voltage.", 14 VSENSE (in) "This is the inverting input to the voltage amplifier.", 15 RSET (in) "A resistor from RSET to GND sets the oscillator charging current and the maximum multiplier output current which is used to limit the maximum line current.", 16 SS1 (in) "Soft Start. SS1 is reset to zero for low VCC . When VCC rises above lockout threshold, SS1 is released to ramp up at a rate set by the internal 12 uA current source and an external capacitor. During this ramp up, PFC (See Datasheet)", 17 VCC (power) "This is the supply for the chip.", 18 VC "PWM current mode control voltage. Normally connects to the optocoupler amplifier output. A pull-up current of 50 uA flows out of the pin.", 19 RAMP (in) "PWM current mode current sense input with current limit set to 1 V.", 20 GTDR2 (out) "The PWM MOSFET gate driver is a 1.5 A fast totem pole output. It is clamped at 15 V. Capacitive loads like the MOSFET gates may cause overshoot. A gate series resistor of at least 5 ohm will prevent the overshoot."

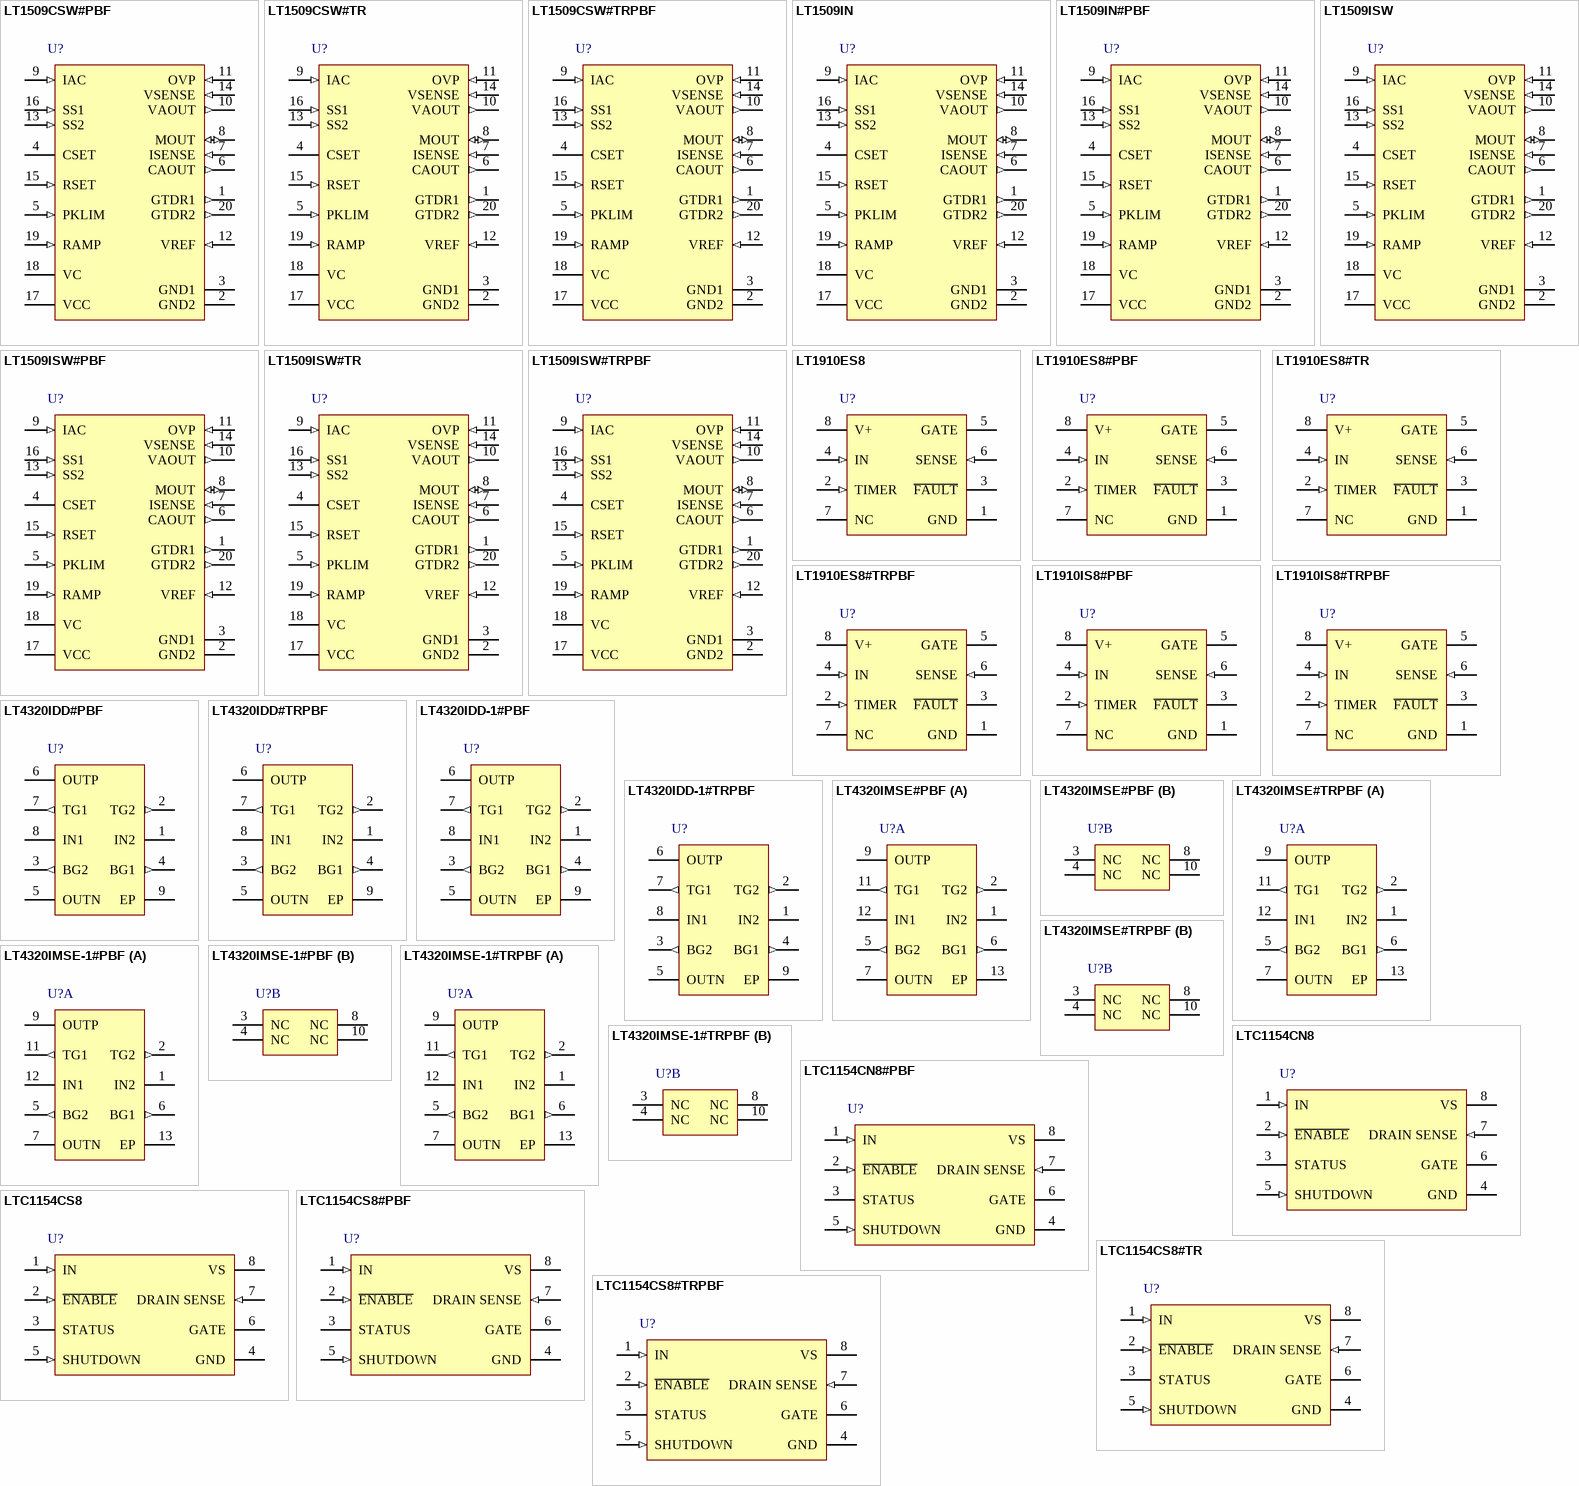
[diagram p5: symbols LT1509CSW#PBF to LTC1154CS8#TRPBF]

## LT1509CSW#PBF
designator U?
Power Factor and PWM Controller, 20-pin SOIC (SW-20), 0 to 100 degC, Pb-Free; Manufacturer: Linear Technology; PartNumber: LT1509CSW#PBF; PackageVersion: Jun-10; PackageReference: SW-20; PackageDescription: 20-Pin Plastic Small Outline, Body 12.80 x 7.49 mm, Pitch 1.27 mm; Supplier 1: Digi-Key; Supplier Part Number 1: LT1509CSW#PBF-ND; Supplier 2: Farnell; Supplier Part Number 2: 1273758; Supplier 3: Newark; Supplier Part Number 3: 57M4654; RoHS: TRUE; Mounting Technology: Surface Mount; ComponentLink1Description: Manufacturer URL; ComponentLink1URL: http://www.linear.com/; ComponentLink2Description: Datasheet; ComponentLink2URL: http://cds.linear.com/docs/en/datasheet/lt1509.pdf; ComponentLink3Description: Package Specification; ComponentLink3URL: http://cds.linear.com/docs/en/packaging/SO_20_05-08-1620.pdf
footprint LT-SW-20_N (SOIC, 20-Leads, Body 12.8x7.49mm, Pitch 1.27mm, IPC Medium Density)
footprint LT-SW-20_L (SOIC, 20-Leads, Body 12.8x7.49mm, Pitch 1.27mm, IPC High Density)
footprint LT-SW-20_M (SOIC, 20-Leads, Body 12.8x7.49mm, Pitch 1.27mm, IPC Low Density)
pins: 1 GTDR1 (out) "The PFC MOSFET gate driver is a fast totem pole output which is clamped at 15 V. Capacitive loads like the MOSFET gates may cause overshoot. A gate series resistor of at least 5 ohm will prevent the overshoot.", 2 GND2 (power) "Power Ground. High current spikes occur in this line when either GTDR1 or GTDR2 switches low.", 3 GND1 (power) "Analog Ground.", 4 CSET "The capacitor from this pin to GND and RSET determines oscillator frequency. The oscillator ramp is 5V and the frequency = 1.5/(RSET CSET ).", 5 PKLIM (in) "The threshold of the peak current limit comparator is GND. To set current limit, a resistor divider can be connected from VREF to current sense resistor.", 6 CAOUT (out) "This is the output of the current amplifier that senses and forces the line current to follow the reference signal that comes from the multiplier by commanding the pulse width modulator. When CAOUT is low, the modulator has (See Datasheet)", 7 ISENSE (in) "This is the inverting input of the current amplifier. This pin is clamped at -0.6 V by an ESD protec tion diode.", 8 MOUT (io) "This is the multiplier high impedance current output and the noninverting input of the current amplifier. This pin is clamped at -0.6 V and 3 V.", 9 IAC (in) "This is the AC line voltage sensing input to the multiplier. It is a current input that is biased at 2 V to minimize the crossover dead zone caused by low line voltage. At the pin, a 25 k resistor is in series with the (See Datasheet)", 10 VAOUT (out) "This is the output of the voltage error amplifier. The output is clamped at 13.5 V. When the output goes below 2.5 V, the multiplier output current is zero.", 11 OVP (in) "This is the input to the overvoltage comparator. The threshold is 1.05 times the reference voltage. When the comparator trips, the multiplier, which is quickly inhibited, blanks PFC switching to prevent further overshoot. (See Datasheet)", 12 VREF (in) "This is the 7.5 V reference. When VCC goes low, VREF will stay at 0 V. VREF biases most of the internal circuitry and can source up to 5 mA externally.", 13 SS2 (in) "PWM Soft Start. The comparator PWMOK monitors the OVP pin and releases the SS2 after the PFC output gets close to the final voltage.", 14 VSENSE (in) "This is the inverting input to the voltage amplifier.", 15 RSET (in) "A resistor from RSET to GND sets the oscillator charging current and the maximum multiplier output current which is used to limit the maximum line current.", 16 SS1 (in) "Soft Start. SS1 is reset to zero for low VCC . When VCC rises above lockout threshold, SS1 is released to ramp up at a rate set by the internal 12 uA current source and an external capacitor. During this ramp up, PFC (See Datasheet)", 17 VCC (power) "This is the supply for the chip.", 18 VC "PWM current mode control voltage. Normally connects to the optocoupler amplifier output. A pull-up current of 50 uA flows out of the pin.", 19 RAMP (in) "PWM current mode current sense input with current limit set to 1 V.", 20 GTDR2 (out) "The PWM MOSFET gate driver is a 1.5 A fast totem pole output. It is clamped at 15 V. Capacitive loads like the MOSFET gates may cause overshoot. A gate series resistor of at least 5 ohm will prevent the overshoot."